# Altium footprint library LITTELFUSE_DO-214AB.PcbLib: 1 footprints
Each footprint in its own frame and in the unit in brackets; x right, y up, seen from the top. Pads: shape width x height; smd on the part's side, far side on the other; paste and mask are expansions set on the pad; w line width, h text height; cw(c..) or ccw(c..) is an arc to the next point about the centre after c.
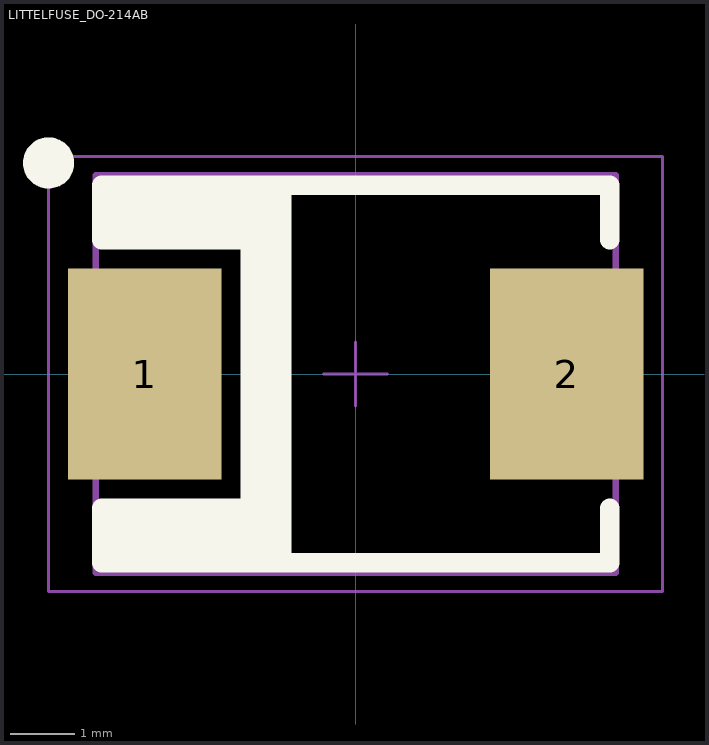
[diagram p0: the footprint, top view; thin cyan lines are the x and y axes]

## LITTELFUSE_DO-214AB [mm] "LITTELFUSE_DO-214AB"
height 2.62
pads (2):
  rect 2.4x3.3 smd: 1(-3.3,0) 2(3.3,0)
Top Overlay:
  circle w0.4: c-4.8,3.3 r0.2
  rectangle: -1.8,-2.95 -1,2.95
  region: -1.5,-2.95 -1.5,-2.1 -3.975,-2.1 -3.975,-2.95
  region: -3.975,2.95 -3.975,2.1 -1.5,2.1 -1.5,2.95
  lines w0.3: -1.5,-2.1 -3.975,-2.1 -3.975,-2.95 3.975,-2.95 3.975,-2.1 ; -1.5,2.1 -3.975,2.1 -3.975,2.95 3.975,2.95 3.975,2.1
Mechanical 13:
  lines w0.1: -4.065,-3.11 4.065,-3.11 4.065,3.11 -4.065,3.11 -4.065,-3.11
Mechanical 15:
  lines w0.05: -0.5,0 0.5,0 ; 0,-0.5 0,0.5 ; -4.8,-3.4 -4.8,3.4 4.8,3.4 4.8,-3.4 -4.8,-3.4
3D body "LITTELFUSE_DO-214AB.stp": height 2.62, standoff 0, extent -3.97,-2.953 3.97,2.953